# EAGLE library part SN74LVC2G02 (library yantronix)
DUAL 2-INPUT POSITIVE-NOR GATE
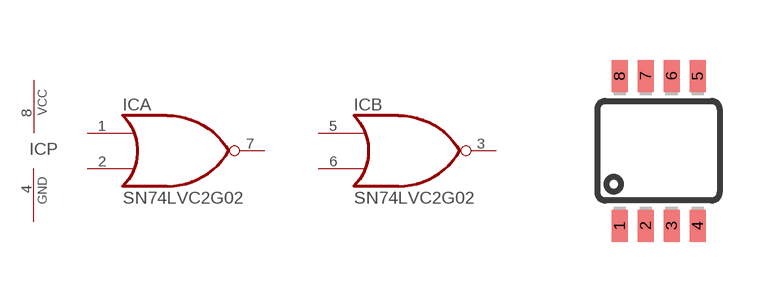
[diagram p7: symbol with the pads of DCT_R-PDSO-G8; footprint DCT_R-PDSO-G8]

Designator prefix IC; gates A=NOR-GATE B=NOR-GATE P=PWRN

## SN74LVC2G02  [DCT_R-PDSO-G8]
1  A:I1  in
2  A:I2  in
3  B:O  out
4  P:GND  pwr
5  B:I1  in
6  B:I2  in
7  A:O  out
8  P:VCC  pwr

## Footprint DCT_R-PDSO-G8 (pad centres in mm)
DCT (R-PDSO-G8) PLASTIC SMALL-OUTLINE PACKAGE
smd 0.4 x 0.8: 1 -0.975,-1.875; 2 -0.325,-1.875; 3 0.325,-1.875; 4 0.975,-1.875; 5 0.975,1.875; 6 0.325,1.875; 7 -0.325,1.875; 8 -0.975,1.875